# Altium schematic symbol library EL-sense_Button.SchLib: 1 symbol
Pins are listed as number, name and electrical type; pins without a type are passive.

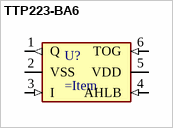
[diagram p0: symbol TTP223-BA6]

## TTP223-BA6
designator U?
pins: 1 Q (out), 2 VSS (power), 3 I (in), 4 AHLB (in), 5 VDD (power), 6 TOG (in)